# Altium footprint library SMD.PcbLib: 86 footprints (part 4 of 6)
Each footprint in its own frame and in the unit in brackets; x right, y up, seen from the top. Pads: shape width x height; smd on the part's side, far side on the other; paste and mask are expansions set on the pad; w line width, h text height; cw(c..) or ccw(c..) is an arc to the next point about the centre after c.
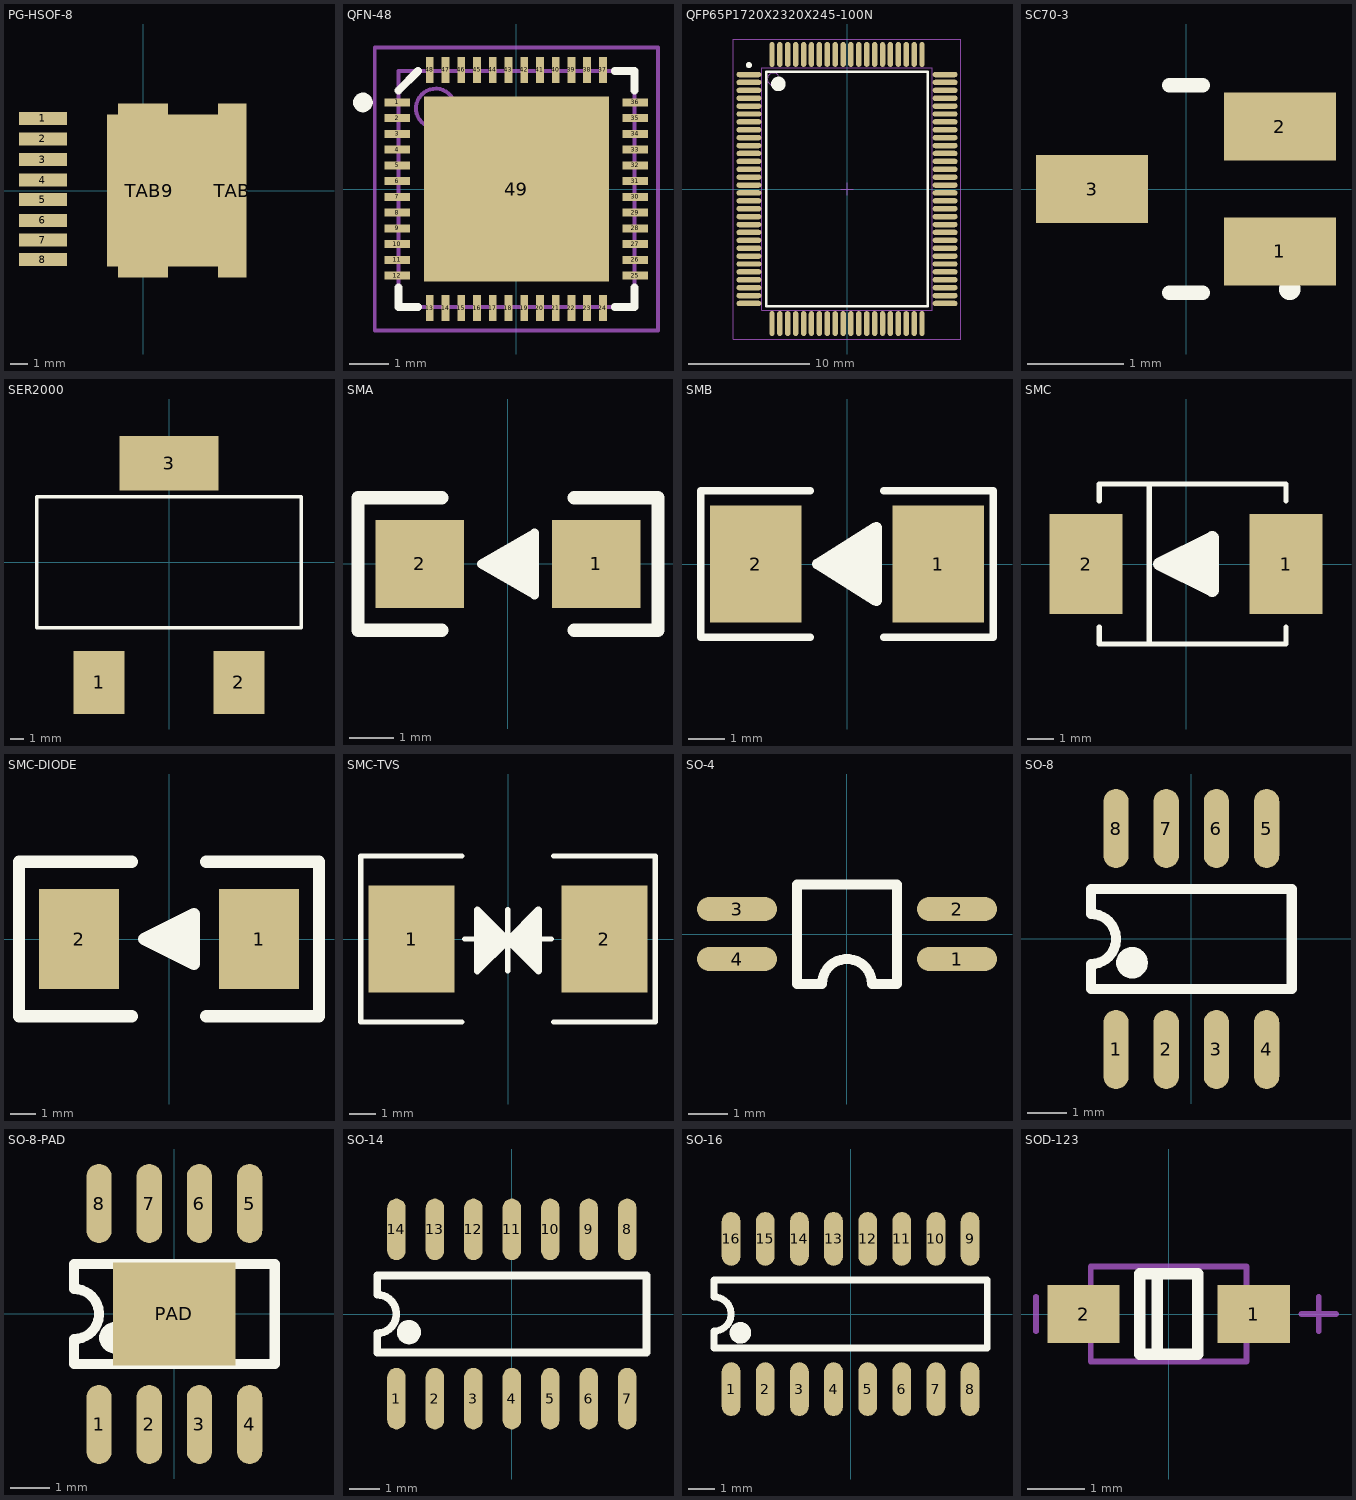
[diagram p3: the footprints below, top view; thin cyan lines are the x and y axes]

## PG-HSOF-8 [mil]
pads (11):
  rect 110x30 smd: 1(-231,166) 2(-231,119) 3(-231,71) 4(-231,24) 5(-231,-21) 6(-231,-69) 7(-231,-114) 8(-231,-159)
  rect 280x350 smd: 9(57,0)
  rect 115x400 smd: TAB(0,0)
  rect 65x400 smd: TAB(205,0)

## QFN-48 [mm] "QFN, 48-Leads, Body 6,0x6,0mm (max), Pitch 0,40mm, IPC Medium Density"
height 0.9
pads (49):
  rect 0.65x0.2 smd: 1(-3.025,2.2) 2(-3.025,1.8) 3(-3.025,1.4) 4(-3.025,1) 5(-3.025,0.6) 6(-3.025,0.2) 7(-3.025,-0.2) 8(-3.025,-0.6) 9(-3.025,-1) 10(-3.025,-1.4) 11(-3.025,-1.8) 12(-3.025,-2.2) 25(3.025,-2.2) 26(3.025,-1.8) 27(3.025,-1.4) 28(3.025,-1) 29(3.025,-0.6) 30(3.025,-0.2) 31(3.025,0.2) 32(3.025,0.6) 33(3.025,1) 34(3.025,1.4) 35(3.025,1.8) 36(3.025,2.2)
  rect 0.2x0.65 smd: 13(-2.2,-3.025) 14(-1.8,-3.025) 15(-1.4,-3.025) 16(-1,-3.025) 17(-0.6,-3.025) 18(-0.2,-3.025) 19(0.2,-3.025) 20(0.6,-3.025) 21(1,-3.025) 22(1.4,-3.025) 23(1.8,-3.025) 24(2.2,-3.025) 37(2.2,3.025) 38(1.8,3.025) 39(1.4,3.025) 40(1,3.025) 41(0.6,3.025) 42(0.2,3.025) 43(-0.2,3.025) 44(-0.6,3.025) 45(-1,3.025) 46(-1.4,3.025) 47(-1.8,3.025) 48(-2.2,3.025)
  rect 4.7x4.7 smd: 49(0,0)
Top Overlay:
  circle w0.25: c-3.9,2.2 r0.125
  lines w0.2: -3,-2.5 -3,-3 -2.5,-3 ; -3,2.5 -2.5,3 ; 2.5,-3 3,-3 3,-2.5 ; 2.5,3 3,3 3,2.5
Mechanical 13:
  circle w0.1: c-2.05,2.05 r0.5
  lines w0.1: -3,-3 -3,3 3,3 3,-3 -3,-3
Mechanical 15:
  lines w0.1: -0.5,0 0.5,0 ; 0,-0.5 0,0.5 ; -3.6,-3.6 -3.6,3.6 3.6,3.6 3.6,-3.6 -3.6,-3.6
3D body: height 0.9, standoff 0, extent -3,-3 3,3

## QFP65P1720X2320X245-100N [mm] "QFP, 100-Leads, Body 23.5x17.5mm (max), Pitch 0.65mm, IPC Medium Density"
height 2.45
pads (100):
  oval 2.05x0.45 smd: 1(-8.075,9.425) 2(-8.075,8.775) 3(-8.075,8.125) 4(-8.075,7.475) 5(-8.075,6.825) 6(-8.075,6.175) 7(-8.075,5.525) 8(-8.075,4.875) 9(-8.075,4.225) 10(-8.075,3.575) 11(-8.075,2.925) 12(-8.075,2.275) 13(-8.075,1.625) 14(-8.075,0.975) 15(-8.075,0.325) 16(-8.075,-0.325) 17(-8.075,-0.975) 18(-8.075,-1.625) 19(-8.075,-2.275) 20(-8.075,-2.925) 21(-8.075,-3.575) 22(-8.075,-4.225) 23(-8.075,-4.875) 24(-8.075,-5.525) 25(-8.075,-6.175) 26(-8.075,-6.825) 27(-8.075,-7.475) 28(-8.075,-8.125) 29(-8.075,-8.775) 30(-8.075,-9.425) 51(8.075,-9.425) 52(8.075,-8.775) 53(8.075,-8.125) 54(8.075,-7.475) 55(8.075,-6.825) 56(8.075,-6.175) 57(8.075,-5.525) 58(8.075,-4.875) 59(8.075,-4.225) 60(8.075,-3.575) 61(8.075,-2.925) 62(8.075,-2.275) 63(8.075,-1.625) 64(8.075,-0.975) 65(8.075,-0.325) 66(8.075,0.325) 67(8.075,0.975) 68(8.075,1.625) 69(8.075,2.275) 70(8.075,2.925) 71(8.075,3.575) 72(8.075,4.225) 73(8.075,4.875) 74(8.075,5.525) 75(8.075,6.175) 76(8.075,6.825) 77(8.075,7.475) 78(8.075,8.125) 79(8.075,8.775) 80(8.075,9.425)
  oval 0.45x2.05 smd: 31(-6.175,-11.075) 32(-5.525,-11.075) 33(-4.875,-11.075) 34(-4.225,-11.075) 35(-3.575,-11.075) 36(-2.925,-11.075) 37(-2.275,-11.075) 38(-1.625,-11.075) 39(-0.975,-11.075) 40(-0.325,-11.075) 41(0.325,-11.075) 42(0.975,-11.075) 43(1.625,-11.075) 44(2.275,-11.075) 45(2.925,-11.075) 46(3.575,-11.075) 47(4.225,-11.075) 48(4.875,-11.075) 49(5.525,-11.075) 50(6.175,-11.075) 81(6.175,11.075) 82(5.525,11.075) 83(4.875,11.075) 84(4.225,11.075) 85(3.575,11.075) 86(2.925,11.075) 87(2.275,11.075) 88(1.625,11.075) 89(0.975,11.075) 90(0.325,11.075) 91(-0.325,11.075) 92(-0.975,11.075) 93(-1.625,11.075) 94(-2.275,11.075) 95(-2.925,11.075) 96(-3.575,11.075) 97(-4.225,11.075) 98(-4.875,11.075) 99(-5.525,11.075) 100(-6.175,11.075)
Top Overlay:
  circle w0.6: c-5.65,8.65 r0.3
  circle w0.25: c-8.075,10.2 r0.125
  lines w0.2: -6.65,-9.65 6.65,-9.65 6.65,9.65 -6.65,9.65 -6.65,-9.65
Mechanical 13:
  circle w0.1: c-6.05,9.05 r0.5
  lines w0.1: -7,-10 7,-10 7,10 -7,10 -7,-10
Mechanical 15:
  lines w0.1: -0.5,0 0.5,0 ; 0,-0.5 0,0.5 ; -9.35,-12.35 9.35,-12.35 9.35,12.35 -9.35,12.35 -9.35,-12.35

## SC70-3 [mil] "SC70/SOT-323 (DCK) Package. 3-Lead Plastic SC70."
height 39.37
pads (3):
  rect 46x28 smd: 1(38.5,-25.59) 2(38.5,25.59) 3(-38.5,0)
Top Overlay:
  circle w6: c42.59,-41.09 r1.41
  lines w6: -6.93,-42.5 6.93,-42.5 ; -6.93,42.5 6.93,42.5
3D body "User Library-SC70-3.step": height 39.37, standoff 0, extent -45.29,-41.33 45.27,41.35

## SER2000 [mm] "CoilCraft_SER2000_SMD_Inductor"
pads (3):
  rect 3.81x4.7 smd: 1(-5.205,-8.96) 2(5.205,-8.96)
  rect 7.37x4.06 smd: 3(0,7.36)
Top Overlay:
  lines w0.254: -9.85,-4.89 9.85,-4.89 9.85,4.89 -9.85,4.89 -9.85,-4.89

## SMA [mm]
pads (2):
  rect 2x2 smd: 1(2,0) 2(-2,0)
Top Overlay:
  lines w0.2: 0.6,-0.501 -0.6,0 ; 0.6,-0.313 -0.6,0 ; 0.6,-0.16 -0.6,0 ; 0.6,-0.001 -0.6,0 ; 0.6,0.175 -0.6,0 ; 0.6,0.325 -0.6,0 ; 0.6,0.516 -0.6,0 ; -0.6,0 0.6,0.7 0.6,-0.7 -0.6,0
  lines w0.3: -1.5,-1.5 -3.4,-1.5 -3.4,1.5 -1.5,1.5 ; 1.5,-1.5 3.4,-1.5 3.4,1.5 1.5,1.5
3D body: height 2.4, standoff 0.1, extent -2.3,-1.46 2.3,1.46

## SMB [mm]
pads (2):
  rect 2.5x3.2 smd: 1(2.5,0) 2(-2.5,0)
Top Overlay:
  lines w0.2: -1,-2 -4,-2 -4,2 -1,2 ; 1,-2 4,-2 4,2 1,2
  lines w0.3: 0.8,-0.551 0.447,-0.551 0.8,-0.366 0.312,-0.387 0.8,-0.123 -0.023,-0.23 0.8,0.191 -0.195,-0.095 0.8,0.511 -0.508,-0.023 ; -0.508,-0.023 0.8,0.79 0.8,-0.801 -0.508,-0.023 ; -0.8,0 0.8,1 0.8,-1 -0.8,0

## SMC [mil]
pads (2):
  rect 110x150 smd: 1(150,0) 2(-150,0)
Top Overlay:
  lines w7.87: -130,-95 -130,-120 150,-120 150,-95 ; -130,95 -130,120 150,120 150,95 ; -55,-120 -55,120
  lines w11.81: 33.96,-14.05 -39.37,0 ; 34.4,-20.79 -39.37,0 ; 34.83,28.31 -39.37,0 ; 35.27,-29.48 -39.37,0 ; 35.92,-6.67 -39.37,0 ; 35.92,8.76 -39.37,0 ; 36.79,18.76 -39.37,0 ; 37.44,-0.37 -39.37,0
  lines w19.68: -39.37,0 39.37,39.37 39.37,-39.37 -39.37,0

## SMC-DIODE [mm]
pads (2):
  rect 3.2x4 smd: 1(3.6,0) 2(-3.6,0)
Top Overlay:
  lines w0.3: 0.863,-0.357 -1,0 ; 0.874,-0.528 -1,0 ; 0.885,0.719 -1,0 ; 0.896,-0.749 -1,0 ; 0.912,-0.169 -1,0 ; 0.912,0.222 -1,0 ; 0.934,0.476 -1,0 ; 0.951,-0.009 -1,0
  lines w0.5: -1.5,-3.1 -6,-3.1 -6,3.1 -1.5,3.1 ; 1.5,-3.1 6,-3.1 6,3.1 1.5,3.1 ; -1,0 1,-1 1,1 -1,0

## SMC-TVS [mm]
pads (2):
  rect 3.2x4 smd: 1(-3.6,0) 2(3.6,0)
Top Overlay:
  lines w0.2: -1.715,-3.1 -5.5,-3.1 -5.5,3.1 -1.715,3.1 ; -1.623,-0.001 -1.151,-0.001 ; -0.006,-1.195 -0.006,1.094 ; 1.138,-0.001 1.616,-0.001 ; 1.714,-3.1 5.5,-3.1 5.5,3.1 1.714,3.1
  lines w0.254: -0.006,-0.117 0.233,-0.117 1.138,0.788 1.138,-0.978 0.341,-0.181 1.033,0.511 1.033,-0.634 0.579,-0.181 ; -0.006,0.016 -0.245,0.016 -1.151,-0.89 -1.151,0.877 -0.353,0.08 -1.045,-0.612 -1.045,0.533 -0.592,0.08 ; -1.151,-1.195 -1.151,1.094 ; -1.151,-1.195 -0.006,-0.051 ; -1.151,-1.195 -1.151,1.094 ; -1.151,-1.195 -0.006,-0.051 ; -1.151,1.094 -0.006,-0.051 ; -1.151,1.094 -0.006,-0.051 ; -0.592,0.08 -0.848,0.08 -0.928,0.16 -0.928,-0.256 -0.592,0.08 ; -0.006,-0.051 1.138,1.094 1.138,-1.195 -0.006,-0.051 ; 0.579,-0.181 0.916,0.155 0.916,-0.261 0.835,-0.181 0.579,-0.181

## SO-4 [mil]
pads (4):
  oval 80x24 smd: 1(110.09,-24.54) 2(110.09,25.46) 3(-109.91,25.46) 4(-109.91,-24.54)
Top Overlay:
  lines w10: -49.91,-49.54 -24.91,-49.54 cw(c0.09,-49.54) 25.09,-49.54 50.09,-49.54 50.09,50 -49.91,50 -49.91,-49.54

## SO-8 [mm]
pads (8):
  oval 0.64x2 smd: 1(-1.905,-2.794) 2(-0.635,-2.794) 3(0.635,-2.794) 4(1.905,-2.794) 5(1.905,2.794) 6(0.635,2.794) 7(-0.635,2.794) 8(-1.905,2.794)
Top Overlay:
  circle w0.4: c-1.5,-0.6 r0.2
  lines w0.254: -2.54,-1.27 -2.54,-0.635 ccw(c-2.54,0) -2.54,0.635 -2.54,1.27 2.54,1.27 2.54,-1.27 -2.54,-1.27
3D body "User Library-SOP-8.step": height 1.45, standoff 0, extent -2.451,-2.921 2.451,2.857

## SO-8-PAD [mm]
pads (9):
  oval 0.64x2 smd: 1(-1.905,-2.794) 2(-0.635,-2.794) 3(0.635,-2.794) 4(1.905,-2.794) 5(1.905,2.794) 6(0.635,2.794) 7(-0.635,2.794) 8(-1.905,2.794)
  rect 3.1x2.6 smd: PAD(0,0)
Top Overlay:
  circle w0.4: c-1.5,-0.6 r0.2
  lines w0.254: -2.54,-1.27 2.54,-1.27 2.54,1.27 -2.54,1.27 -2.54,0.635 cw(c-2.54,0) -2.54,-0.635 -2.54,-1.27
3D body "User Library-SOP-8.step": height 1.45, standoff 0, extent -2.451,-2.921 2.451,2.857

## SO-14 [mil]
pads (14):
  oval 24x80 smd: 1(-150,-110) 2(-100,-110) 3(-50,-110) 4(0,-110) 5(50,-110) 6(100,-110) 7(150,-110) 8(150,110) 9(100,110) 10(50,110) 11(0,110) 12(-50,110) 13(-100,110) 14(-150,110)
Top Overlay:
  circle w15.75: c-133.86,-23.62 r7.87
  lines w10: -175,-50 175,-50 175,50 -175,50 -175,25 cw(c-175,0) -175,-25 -175,-50
3D body "User Library-SOP-8.step": height 57, standoff 0, extent -21.5,-115 171.5,112.49
3D body "User Library-SOP-8.step": height 57, standoff 0, extent -171.5,-115 21.5,112.49

## SO-16 [mm]
pads (16):
  oval 0.7x2 smd: 1(-4.445,-2.794) 2(-3.175,-2.794) 3(-1.905,-2.794) 4(-0.635,-2.794) 5(0.635,-2.794) 6(1.905,-2.794) 7(3.175,-2.794) 8(4.445,-2.794) 9(4.445,2.794) 10(3.175,2.794) 11(1.905,2.794) 12(0.635,2.794) 13(-0.635,2.794) 14(-1.905,2.794) 15(-3.175,2.794) 16(-4.445,2.794)
Top Overlay:
  circle w0.4: c-4.1,-0.7 r0.2
  lines w0.254: -5.08,-1.27 5.08,-1.27 5.08,1.27 -5.08,1.27 -5.08,0.635 cw(c-5.08,0) -5.08,-0.635 -5.08,-1.27
3D body "User Library-SOP-16.step": height 1.45, standoff 0, extent -4.978,-2.946 5.004,2.959

## SOD-123 [mm]
pads (2):
  rect 1.25x1 smd: 1(1.475,0) 2(-1.475,0)
Top Overlay:
  lines w0.2: -0.2,-0.7 -0.2,0.7 ; -0.5,-0.7 0.5,-0.7 0.5,0.7 -0.5,0.7 -0.5,-0.7
Mechanical 13:
  lines w0.1: -1.35,-0.825 -1.35,0.825 1.35,0.825 1.35,-0.825 -1.35,-0.825
Mechanical 15:
  lines w0.1: -2.3,-0.3 -2.3,0.3 ; 2.3,0 2.9,0 ; 2.6,-0.3 2.6,0.3
3D body "SOD123.STEP": height 1.35, standoff 0, extent -1.85,-0.775 1.85,0.775